# Altium footprint library LampaPCBlibrary.PcbLib: 5 footprints
Each footprint in its own frame and in the unit in brackets; x right, y up, seen from the top. Pads: shape width x height; smd on the part's side, far side on the other; paste and mask are expansions set on the pad; w line width, h text height; cw(c..) or ccw(c..) is an arc to the next point about the centre after c.
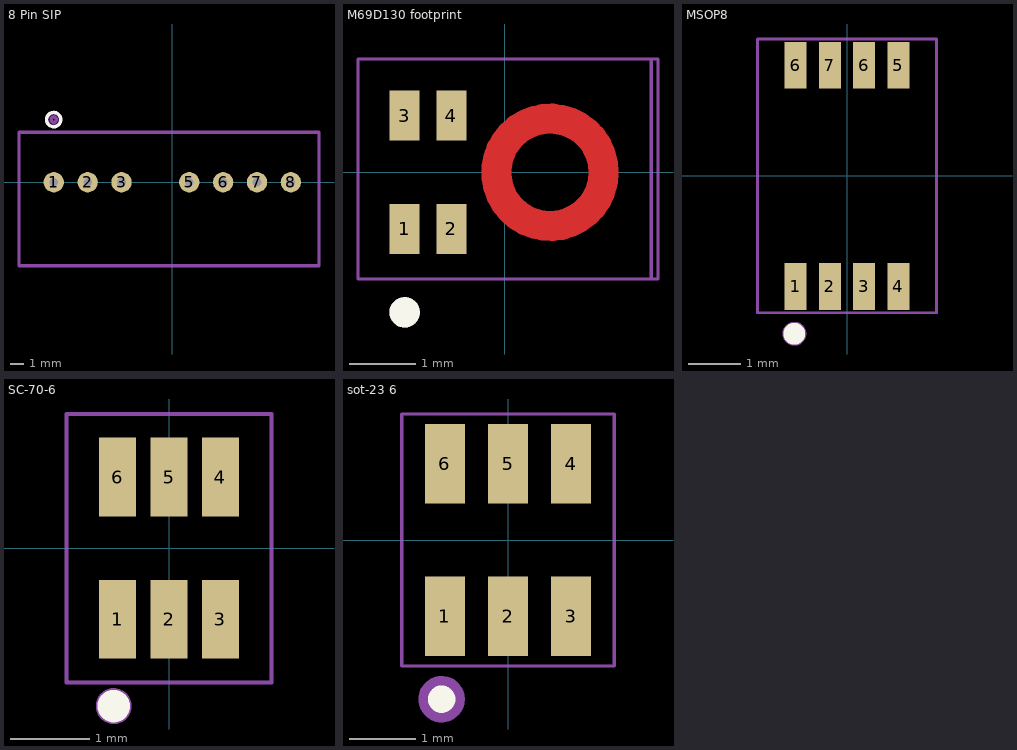
[diagram p0: the footprints below, top view; thin cyan lines are the x and y axes]

## 8 Pin SIP [mil]
pads (7):
  round 60 hole 25.59: 1(-350,0) 2(-250,0) 3(-150,0) 5(50,0) 6(150,0) 7(250,0) 8(350,0)
Top Overlay:
  circle w10: c-350.39,185.04 r21.2
Top Assembly:
  circle w10: c-350.39,185.04 r19.68
  lines w10: -452.76,-246.06 -452.76,147.64 433.07,147.64 433.07,-246.06 -452.76,-246.06
  text ".Designator" at -54,195 h78.74
Top Outline:
  circle w10: c-350.39,185.04 r7.87
  lines w10: -452.76,-246.06 -452.76,147.64 433.07,147.64 433.07,-246.06 -452.76,-246.06
3D body "8 Pin SIP.STEP": height 437.01, standoff -137.8, extent -439.13,-231.2 419.13,131

## M69D130 footprint [mm]
pads (4):
  rect 0.45x0.75 smd mask+0.05: 1(-1.5,-0.85) 2(-0.8,-0.85) 3(-1.5,0.85) 4(-0.8,0.85)
Top Layer:
  circle w0.45: c0.68,0 r0.805
Top Overlay:
  circle w0.254: c-1.5,-2.1 r0.1
Drill Guide:
  circle w0.4: c0.68,0 r0.2
Top Assembly:
  circle w0.254: c-1.5,-2.1 r0.1
  lines w0.05: -2.2,-1.6 -2.2,1.7 -0.65,1.7 0.65,1.7 2.3,1.7 2.3,0.15 2.3,-1.6 -2.2,-1.6
  text ".Designator" at 3,-0.4 h2
Top Outline:
  lines w0.05: -2.2,-1.6 2.2,-1.6 2.2,1.7 -2.2,1.7 -2.2,-1.6
3D body "Infineon-IM69D130.STEP": height 1.2, standoff 0, extent -2,-1.5 2,1.5

## MSOP8 [mm]
pads (8):
  rect 0.42x0.889 smd mask+0.05: 1(-0.975,-2.1) 2(-0.325,-2.1) 3(0.325,-2.1) 4(0.975,-2.1) 5(0.975,2.1) 6(-0.975,2.1) 6(0.325,2.1) 7(-0.325,2.1)
Top Overlay:
  circle w0.254: c-1,-3 r0.079
Top Assembly:
  circle w0.254: c-1,-3 r0.1
  lines w0.05: -1.7,-2.6 -1.7,2.6 1.7,2.6 1.7,-2.6 -1.7,-2.6
  text ".Designator" at 2.252,-0.666 h2
Top Outline:
  circle w0.254: c-1,-3 r0.025
  lines w0.05: -1.7,-2.6 -1.7,2.6 1.7,2.6 1.7,-2.6 -1.7,-2.6
3D body "MSOP8.STEP": height 1.1, standoff 0, extent -1.55,-2.469 1.55,2.469

## SC-70-6 [mm]
pads (6):
  rect 0.47x1 smd mask+0.05: 1(-0.65,-0.9) 2(0,-0.9) 3(0.65,-0.9) 4(0.65,0.9) 5(0,0.9) 6(-0.65,0.9)
Top Overlay:
  circle w0.254: c-0.7,-2 r0.079
Top Assembly:
  circle w0.254: c-0.7,-2 r0.1
  lines w0.05: -1.3,-1.675 -1.275,-1.7 1.3,-1.7 1.3,1.7 -1.3,1.7 -1.3,-1.675
  text ".Designator" at 1.6,-0.4 h2
Top Outline:
  circle w0.254: c-0.7,-2 r0.025
  lines w0.05: -1.3,-1.7 -1.3,1.7 1.3,1.7 1.3,-1.7 -1.3,-1.7
3D body "SC70-6.STEP": height 1, standoff 0, extent -1.05,-1.15 1.05,1.15

## sot-23 6 [mm]
pads (6):
  rect 0.6x1.2 smd mask+0.05: 1(-0.95,-1.15) 2(0,-1.15) 3(0.95,-1.15) 4(0.95,1.15) 5(0,1.15) 6(-0.95,1.15)
Top Overlay:
  circle w0.254: c-1,-2.4 r0.079
Top Assembly:
  circle w0.254: c-1,-2.4 r0.224
  lines w0.05: -1.6,-1.9 -1.6,1.9 1.6,1.9 1.6,-1.9 -1.6,-1.9
  text ".Designator" at 2.252,-0.666 h2
Top Outline:
  circle w0.254: c-1,-2.4 r0.025
  lines w0.05: -1.6,-1.9 1.6,-1.9 1.6,1.9 -1.6,1.9 -1.6,-1.9
3D body "SOT23-6.STEP": height 1.45, standoff 0, extent -1.45,-1.405 1.45,1.405